# Altium integrated library 100R_0603.IntLib: 1 symbol
Pins are listed as number, name and electrical type; pins without a type are passive.

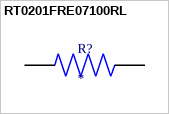
[diagram p0: symbol RT0201FRE07100RL]

## RT0201FRE07100RL
designator R?
MP: RT0201FRE07100RL; Package: None; Price: None; Value: *; Availability: Unavailable
footprint RESC0603X26N
pins: 1, 2